# Altium integrated library Deep_Switch.IntLib: 1 symbol
Pins are listed as number, name and electrical type; pins without a type are passive.

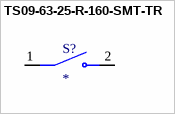
[diagram p0: symbol TS09-63-25-R-160-SMT-TR]

## TS09-63-25-R-160-SMT-TR
designator S?
MP: TS09-63-25-R-160-SMT-TR; Value: *; Package: None; Price: None; Availability: Unavailable
footprint SW_TS09-63-25-R-160-SMT-TR
pins: 1, 2